# EAGLE library part BNO085 (library BLTFootprints)
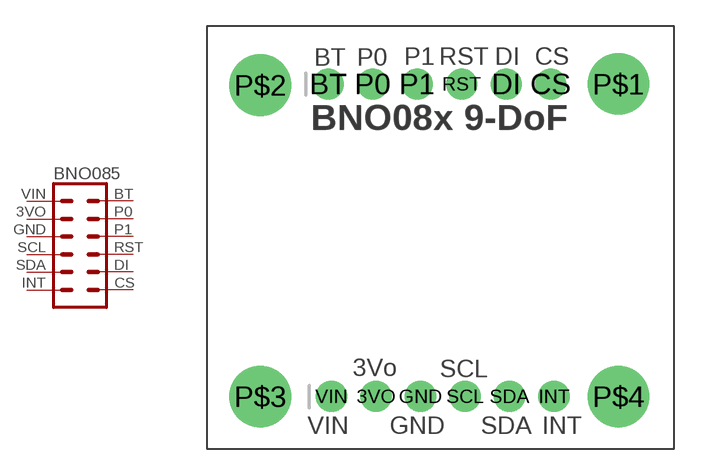
[diagram p1: symbol with the pads of MICROBUILDER_1X06_ROUND_70; footprint MICROBUILDER_1X06_ROUND_70]

Designator prefix -

## BNO085  [MICROBUILDER_1X06_ROUND_70]
3VO  3VO  pas
BT  BT  pas
CS  CS  pas
DI  DI  pas
GND  GND  pas
INT  INT  pas
P0  P0  pas
P1  P1  pas
RST  RST  pas
SCL  SCL  pas
SDA  SDA  pas
VIN  VIN  pas

## Footprint MICROBUILDER_1X06_ROUND_70 (pad centres in mm)
drill 1 pad 1.778: 3VO 9.652,-5.905; BT 6.921,11.938; CS 19.622,11.938; DI 17.081,11.938; GND 12.192,-5.905; INT 19.812,-5.905; P0 9.461,11.938; P1 12.002,11.938; RST 14.541,11.938; SCL 14.732,-5.905; SDA 17.272,-5.905; VIN 7.112,-5.905
drill 2.5 pad 3.2: P$1 23.495,11.938; P$2 3.048,11.874; P$3 3.048,-5.905; P$4 23.495,-5.905